# Altium footprint library DG500-5.08-03P.PcbLib: 1 footprints
Each footprint in its own frame and in the unit in brackets; x right, y up, seen from the top. Pads: shape width x height; smd on the part's side, far side on the other; paste and mask are expansions set on the pad; w line width, h text height; cw(c..) or ccw(c..) is an arc to the next point about the centre after c.
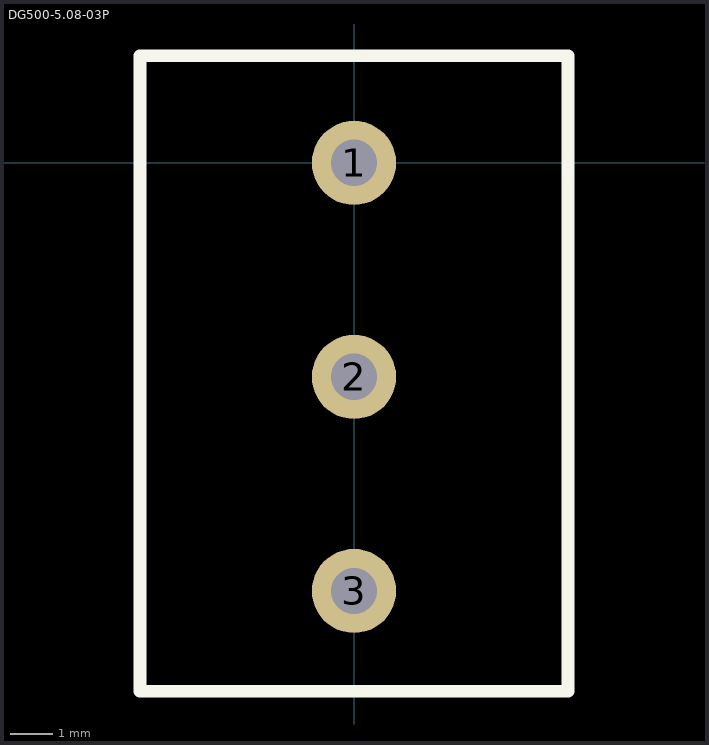
[diagram p0: the footprint, top view; thin cyan lines are the x and y axes]

## DG500-5.08-03P [mm]
pads (3):
  round 2 hole 1.1: 1(0,0) 2(0,-5.08) 3(0,-10.16)
Top Overlay:
  lines w0.3: -5.08,-12.538 5.08,-12.538 5.08,2.54 -5.08,2.54 -5.08,-12.538
TopAssy:
  lines w0.2: -5.08,-12.562 -5.08,2.54 5.08,2.54 5.08,-12.562 -5.08,-12.562
3D body "DG500-5.08-03P-14-00AH.STEP": height 14.1, standoff -3.4, extent -4.985,-13.296 5.015,2.524